# Altium schematic symbol library WE-PoE++.SchLib: 23 symbols
Pins are listed as number, name and electrical type; pins without a type are passive.

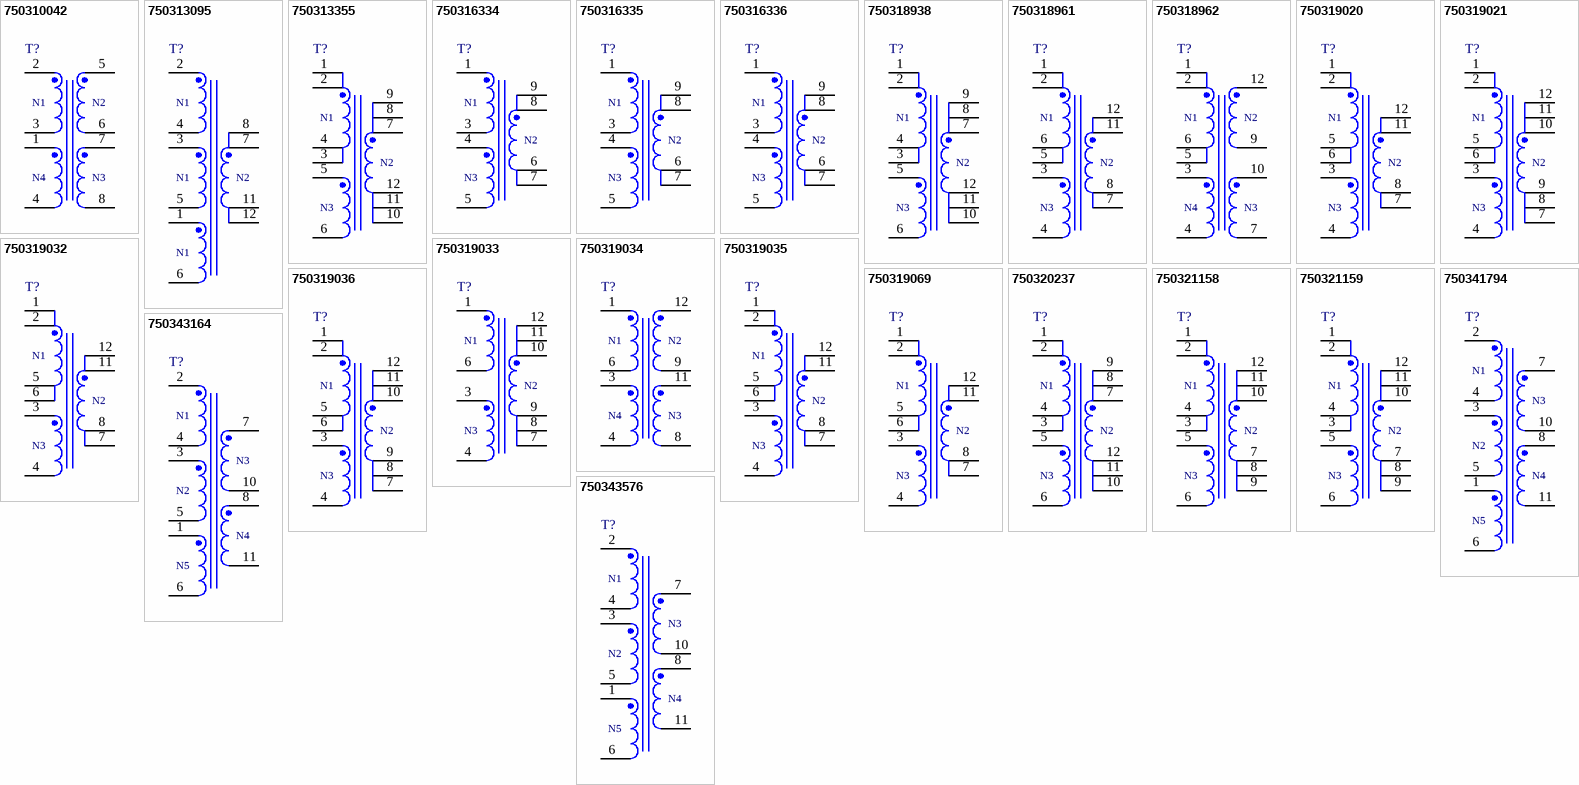
[diagram p0: symbols 750310042 to 750343576]

## 750310042
designator T?  (value not drawn)
WE-PoE++ Power over Ethernet Plus Plus Transformer, THT, EFD20, Ui = 30-57V, Po1 = 12V/5A, Po2 = -12V/1.6A; Manufacturer: Wurth Elektronik; Auxiliary Voltage: 12V; Inductance: 154μH; Input Voltage: 30-57V (DC); Insulation Test Voltage: 1500V (AC); Output Current: 5A; Output Current 2: 1.6A; Output Voltage 2: -12V; Turns Ratio: 2:1:1:1; Type: Forward; Manufacturer Part Number: 750310042; Category: Transformers For DC-DC Converter; Match Code: WE-PoE++; ComponentLink1Description: Website Link; ComponentLink1URL: https://www.we-online.com/redexpert/article/750310042?ad; ComponentLink2Description: Datasheet Link; ComponentLink2URL: https://www.we-online.com/redexpert/spec/750310042?ad; Mount: Through Hole; Min Operating Temperature: -40°C; Max Operating Temperature: 125°C; Packaging: Tape and Reel; Case/Size Code: EFD20; Length: 21.08mm; Width: 21.08mm; Height: 10.8mm; Output Voltage: 12V
footprint EFD20_750310042
pins: 1, 2, 3, 4, 5, 6, 7, 8
text: N1; N2; N4; N3

## 750313095
designator T?  (value not drawn)
WE-PoE++ Power over Ethernet Plus Plus Transformer, SMT, EFD20, Ui = 40-57V, Po = 5V/17A; Manufacturer: Wurth Elektronik; Auxiliary Voltage: 10.75V; Inductance: 175μH; Input Voltage: 40-57V (DC); Insulation Test Voltage: 2400V (AC); Output Current: 17A; Output Voltage: 5V; Turns Ratio: 3.5:1:2.25; Type: Forward; Manufacturer Part Number: 750313095; Category: Transformers For DC-DC Converter; Match Code: WE-PoE++; ComponentLink1Description: Website Link; ComponentLink1URL: https://www.we-online.com/redexpert/article/750313095?ad; ComponentLink2Description: Datasheet Link; ComponentLink2URL: https://www.we-online.com/redexpert/spec/750313095?ad; Mount: Surface Mount; Min Operating Temperature: -40°C; Max Operating Temperature: 125°C; Packaging: Tape and Reel; Case/Size Code: EFD20; Length: 29.65mm; Width: 21.8mm; Height: 11.43mm
footprint EFD20_750313095
pins: 1, 2, 3, 4, 5, 6, 7, 8, 11, 12
text: N1; N2

## 750313355
designator T?  (value not drawn)
WE-PoE++ Power over Ethernet Plus Plus Transformer, SMT, EFD20, Ui = 36-72V, Po = 12V/5A; Manufacturer: Wurth Elektronik; Auxiliary Voltage: 12V; Inductance: 100μH; Input Voltage: 36-72V (DC); Insulation Test Voltage: 1500V (AC); Output Current: 5A; Turns Ratio: 2:1:1; Type: Forward; Manufacturer Part Number: 750313355; Category: Transformers For DC-DC Converter; Match Code: WE-PoE++; ComponentLink1Description: Website Link; ComponentLink1URL: https://www.we-online.com/redexpert/article/750313355?ad; ComponentLink2Description: Datasheet Link; ComponentLink2URL: https://www.we-online.com/redexpert/spec/750313355?ad; Mount: Surface Mount; Min Operating Temperature: -40°C; Max Operating Temperature: 125°C; Packaging: Tape and Reel; Case/Size Code: EFD20; Length: 29.65mm; Width: 21.8mm; Height: 11.43mm; Output Voltage: 12V
footprint EFD20_750313355
pins: 1, 2, 3, 4, 5, 6, 7, 8, 9, 10, 11, 12
text: N1; N2; N3

## 750316334
designator T?  (value not drawn)
WE-PoE++ Power over Ethernet Plus Plus Transformer, SMT, EPW15, Ui = 36-57V, Po = 3.3V/18A; Manufacturer: Wurth Elektronik; Auxiliary Voltage: 12V; Inductance: 50μH; Input Voltage: 36-57V (DC); Insulation Test Voltage: 1500V (AC); Output Current: 18A; Output Voltage: 3.3V; Turns Ratio: 7:1:3.5; Type: Forward; Manufacturer Part Number: 750316334; Category: Transformers For DC-DC Converter; Match Code: WE-PoE++; ComponentLink1Description: Website Link; ComponentLink1URL: https://www.we-online.com/redexpert/article/750316334?ad; ComponentLink2Description: Datasheet Link; ComponentLink2URL: https://www.we-online.com/redexpert/spec/750316334?ad; Mount: Surface Mount; Min Operating Temperature: -40°C; Max Operating Temperature: 125°C; Packaging: Tape and Reel; Case/Size Code: EPW15; Length: 21.69mm; Width: 15.5mm; Height: 13.5mm
footprint EPW15_750316334
pins: 1, 3, 4, 5, 6, 7, 8, 9
text: N1; N2; N3

## 750316335
designator T?  (value not drawn)
WE-PoE++ Power over Ethernet Plus Plus Transformer, SMT, EPW15, Ui = 36-57V, Po = 5V/14A; Manufacturer: Wurth Elektronik; Auxiliary Voltage: 12V; Inductance: 50μH; Input Voltage: 36-57V (DC); Insulation Test Voltage: 1500V (AC); Output Current: 14A; Output Voltage: 5V; Turns Ratio: 4:1:2.33; Type: Forward; Manufacturer Part Number: 750316335; Category: Transformers For DC-DC Converter; Match Code: WE-PoE++; ComponentLink1Description: Website Link; ComponentLink1URL: https://www.we-online.com/redexpert/article/750316335?ad; ComponentLink2Description: Datasheet Link; ComponentLink2URL: https://www.we-online.com/redexpert/spec/750316335?ad; Mount: Surface Mount; Min Operating Temperature: -40°C; Max Operating Temperature: 125°C; Packaging: Tape and Reel; Case/Size Code: EPW15; Length: 21.69mm; Width: 15.5mm; Height: 13.5mm
footprint EPW15_750316335
pins: 1, 3, 4, 5, 6, 7, 8, 9
text: N1; N2; N3

## 750316336
designator T?  (value not drawn)
WE-PoE++ Power over Ethernet Plus Plus Transformer, SMT, EPW15, Ui = 36-57V, Po = 12V/6A; Manufacturer: Wurth Elektronik; Auxiliary Voltage: 12V; Inductance: 50μH; Input Voltage: 36-57V (DC); Insulation Test Voltage: 1500V (AC); Output Current: 6A; Turns Ratio: 2:1:1; Type: Forward; Manufacturer Part Number: 750316336; Category: Transformers For DC-DC Converter; Match Code: WE-PoE++; ComponentLink1Description: Website Link; ComponentLink1URL: https://www.we-online.com/redexpert/article/750316336?ad; ComponentLink2Description: Datasheet Link; ComponentLink2URL: https://www.we-online.com/redexpert/spec/750316336?ad; Mount: Surface Mount; Min Operating Temperature: -40°C; Max Operating Temperature: 125°C; Packaging: Tape and Reel; Case/Size Code: EPW15; Length: 21.69mm; Width: 15.5mm; Height: 13.5mm; Output Voltage: 12V
footprint EPW15_750316336
pins: 1, 3, 4, 5, 6, 7, 8, 9
text: N1; N2; N3

## 750318938
designator T?  (value not drawn)
WE-PoE++ Power over Ethernet Plus Plus Transformer, SMT, EFD20, Ui = 36-72V, Po = 5V/12A; Manufacturer: Wurth Elektronik; Auxiliary Voltage: 13V; Inductance: 150μH; Input Voltage: 36-72V (DC); Insulation Test Voltage: 1500V (AC); Output Current: 12A; Output Voltage: 5V; Turns Ratio: 4:1:2.6; Type: Forward; Manufacturer Part Number: 750318938; Category: Transformers For DC-DC Converter; Match Code: WE-PoE++; ComponentLink1Description: Website Link; ComponentLink1URL: https://www.we-online.com/redexpert/article/750318938?ad; ComponentLink2Description: Datasheet Link; ComponentLink2URL: https://www.we-online.com/redexpert/spec/750318938?ad; Mount: Surface Mount; Min Operating Temperature: -40°C; Max Operating Temperature: 125°C; Packaging: Tape and Reel; Case/Size Code: EFD20; Length: 29.65mm; Width: 21.8mm; Height: 11.43mm
footprint EFD20_750318938
pins: 1, 2, 3, 4, 5, 6, 7, 8, 9, 10, 11, 12
text: N1; N2; N3

## 750318961
designator T?  (value not drawn)
WE-PoE++ Power over Ethernet Plus Plus Transformer, SMT, EFD20, Ui = 33-57V, Po = 5V/19A; Manufacturer: Wurth Elektronik; Auxiliary Voltage: 12V; Inductance: 66μH; Input Voltage: 33-57V (DC); Insulation Test Voltage: 1500V (AC); Output Current: 19A; Output Voltage: 5V; Turns Ratio: 4:1:2.5; Type: Active Clamp Forward; Manufacturer Part Number: 750318961; Category: Transformers For DC-DC Converter; Match Code: WE-PoE++; ComponentLink1Description: Website Link; ComponentLink1URL: https://www.we-online.com/redexpert/article/750318961?ad; ComponentLink2Description: Datasheet Link; ComponentLink2URL: https://www.we-online.com/redexpert/spec/750318961?ad; Mount: Surface Mount; Min Operating Temperature: -40°C; Max Operating Temperature: 125°C; Packaging: Tape and Reel; Case/Size Code: EFD20; Length: 29.65mm; Width: 21.8mm; Height: 11.43mm
footprint EFD20_750318961
pins: 1, 2, 3, 4, 5, 6, 7, 8, 11, 12
text: N1; N2; N3

## 750318962
designator T?  (value not drawn)
WE-PoE++ Power over Ethernet Plus Plus Transformer, SMT, EFD20, Ui = 33-57V, Po = 12V/8A; Manufacturer: Wurth Elektronik; Auxiliary Voltage: 12V; Inductance: 66μH; Input Voltage: 33-57V (DC); Insulation Test Voltage: 1500V (AC); Output Current: 8A; Turns Ratio: 1.6:1:1:1; Type: Active Clamp Forward; Manufacturer Part Number: 750318962; Category: Transformers For DC-DC Converter; Match Code: WE-PoE++; ComponentLink1Description: Website Link; ComponentLink1URL: https://www.we-online.com/redexpert/article/750318962?ad; ComponentLink2Description: Datasheet Link; ComponentLink2URL: https://www.we-online.com/redexpert/spec/750318962?ad; Mount: Surface Mount; Min Operating Temperature: -40°C; Max Operating Temperature: 125°C; Packaging: Tape and Reel; Case/Size Code: EFD20; Length: 29.65mm; Width: 21.8mm; Height: 11.43mm; Output Voltage: 12V
footprint EFD20_750318962
pins: 1, 2, 3, 4, 5, 6, 7, 9, 10, 12
text: N1; N2; N4; N3

## 750319020
designator T?  (value not drawn)
WE-PoE++ Power over Ethernet Plus Plus Transformer, SMT, EFD25, Ui = 33-57V, Po = 5V/19A; Manufacturer: Wurth Elektronik; Auxiliary Voltage: 12V; Inductance: 17μH; Input Voltage: 33-57V (DC); Insulation Test Voltage: 1500V (AC); Output Current: 19A; Output Voltage: 5V; Turns Ratio: 5:1:2.5; Type: CCM Flyback; Manufacturer Part Number: 750319020; Category: Transformers For DC-DC Converter; Match Code: WE-PoE++; ComponentLink1Description: Website Link; ComponentLink1URL: https://www.we-online.com/redexpert/article/750319020?ad; ComponentLink2Description: Datasheet Link; ComponentLink2URL: https://www.we-online.com/redexpert/spec/750319020?ad; Mount: Surface Mount; Min Operating Temperature: -40°C; Max Operating Temperature: 125°C; Packaging: Tape and Reel; Case/Size Code: EFD25; Length: 32.45mm; Width: 27.03mm; Height: 13.97mm
footprint EFD25_750319020
pins: 1, 2, 3, 4, 5, 6, 7, 8, 11, 12
text: N1; N2; N3

## 750319021
designator T?  (value not drawn)
WE-PoE++ Power over Ethernet Plus Plus Transformer, SMT, EFD25, Ui = 33-57V, Po = 12V/8A; Manufacturer: Wurth Elektronik; Auxiliary Voltage: 12V; Inductance: 22μH; Input Voltage: 33-57V (DC); Insulation Test Voltage: 1500V (AC); Output Current: 8A; Turns Ratio: 2.4:1:1; Type: CCM Flyback; Manufacturer Part Number: 750319021; Category: Transformers For DC-DC Converter; Match Code: WE-PoE++; ComponentLink1Description: Website Link; ComponentLink1URL: https://www.we-online.com/redexpert/article/750319021?ad; ComponentLink2Description: Datasheet Link; ComponentLink2URL: https://www.we-online.com/redexpert/spec/750319021?ad; Mount: Surface Mount; Min Operating Temperature: -40°C; Max Operating Temperature: 125°C; Packaging: Tape and Reel; Case/Size Code: EFD25; Length: 32.45mm; Width: 27.03mm; Height: 13.97mm; Output Voltage: 12V
footprint EFD25_750319021
pins: 1, 2, 3, 4, 5, 6, 7, 8, 9, 10, 11, 12
text: N1; N2; N3

## 750319032
designator T?  (value not drawn)
WE-PoE++ Power over Ethernet Plus Plus Transformer, SMT, EFD25, Ui = 33-57V, Po = 24V/4A; Manufacturer: Wurth Elektronik; Auxiliary Voltage: 12V; Inductance: 22μH; Input Voltage: 33-57V (DC); Insulation Test Voltage: 1500V (AC); Output Current: 4A; Output Voltage: 24V; Turns Ratio: 2.4:2:1; Manufacturer Part Number: 750319032; Category: Transformers For DC-DC Converter; Match Code: WE-PoE++; ComponentLink1Description: Website Link; ComponentLink1URL: https://www.we-online.com/redexpert/article/750319032?ad; ComponentLink2Description: Datasheet Link; ComponentLink2URL: https://www.we-online.com/redexpert/spec/750319032?ad; Mount: Surface Mount; Min Operating Temperature: -40°C; Max Operating Temperature: 125°C; Packaging: Tape and Reel; Case/Size Code: EFD25; Length: 32.45mm; Width: 27.03mm; Height: 13.97mm
footprint EFD25_750319032
pins: 1, 2, 3, 4, 5, 6, 7, 8, 11, 12
text: N1; N2; N3

## 750319033
designator T?  (value not drawn)
WE-PoE++ Power over Ethernet Plus Plus Transformer, SMT, EFD20, Ui = 33-57V, Po = 5V/14.6A; Manufacturer: Wurth Elektronik; Auxiliary Voltage: 12V; Inductance: 66μH; Input Voltage: 33-57V (DC); Insulation Test Voltage: 1500V (AC); Output Current: 14.6A; Output Voltage: 5V; Turns Ratio: 4:1:2.5; Type: Active Clamp Forward; Manufacturer Part Number: 750319033; Category: Transformers For DC-DC Converter; Match Code: WE-PoE++; ComponentLink1Description: Website Link; ComponentLink1URL: https://www.we-online.com/redexpert/article/750319033?ad; ComponentLink2Description: Datasheet Link; ComponentLink2URL: https://www.we-online.com/redexpert/spec/750319033?ad; Mount: Surface Mount; Min Operating Temperature: -40°C; Max Operating Temperature: 125°C; Packaging: Tape and Reel; Case/Size Code: EFD20; Length: 29.65mm; Width: 21.8mm; Height: 11.43mm
footprint EFD20_750319033
pins: 1, 3, 4, 6, 7, 8, 9, 10, 11, 12
text: N1; N2; N3

## 750319034
designator T?  (value not drawn)
WE-PoE++ Power over Ethernet Plus Plus Transformer, SMT, EFD20, Ui = 33-57V, Po = 12V/6A; Manufacturer: Wurth Elektronik; Auxiliary Voltage: 12V; Inductance: 66μH; Input Voltage: 33-57V (DC); Insulation Test Voltage: 1500V (AC); Output Current: 6A; Turns Ratio: 1.6:1:1:1; Type: Active Clamp Forward; Manufacturer Part Number: 750319034; Category: Transformers For DC-DC Converter; Match Code: WE-PoE++; ComponentLink1Description: Website Link; ComponentLink1URL: https://www.we-online.com/redexpert/article/750319034?ad; ComponentLink2Description: Datasheet Link; ComponentLink2URL: https://www.we-online.com/redexpert/spec/750319034?ad; Mount: Surface Mount; Min Operating Temperature: -40°C; Max Operating Temperature: 125°C; Packaging: Tape and Reel; Case/Size Code: EFD20; Length: 29.65mm; Width: 21.8mm; Height: 11.43mm; Output Voltage: 12V
footprint EFD20_750319034
pins: 1, 3, 4, 6, 8, 9, 11, 12
text: N1; N2; N4; N3

## 750319035
designator T?  (value not drawn)
WE-PoE++ Power over Ethernet Plus Plus Transformer, SMT, EFD20, Ui = 33-57V, Po = 5V/14.6A; Manufacturer: Wurth Elektronik; Auxiliary Voltage: 12V; Inductance: 16μH; Input Voltage: 33-57V (DC); Insulation Test Voltage: 1500V (AC); Output Current: 14.6A; Output Voltage: 5V; Turns Ratio: 4.67:1:2.33; Type: CCM Flyback; Manufacturer Part Number: 750319035; Category: Transformers For DC-DC Converter; Match Code: WE-PoE++; ComponentLink1Description: Website Link; ComponentLink1URL: https://www.we-online.com/redexpert/article/750319035?ad; ComponentLink2Description: Datasheet Link; ComponentLink2URL: https://www.we-online.com/redexpert/spec/750319035?ad; Mount: Surface Mount; Min Operating Temperature: -40°C; Max Operating Temperature: 125°C; Packaging: Tape and Reel; Case/Size Code: EFD20; Length: 29.65mm; Width: 21.8mm; Height: 11.43mm
footprint EFD20_750319035
pins: 1, 2, 3, 4, 5, 6, 7, 8, 11, 12
text: N1; N2; N3

## 750319036
designator T?  (value not drawn)
WE-PoE++ Power over Ethernet Plus Plus Transformer, SMT, EFD20, Ui = 33-57V, Po = 12V/6A; Manufacturer: Wurth Elektronik; Auxiliary Voltage: 12V; Inductance: 16μH; Input Voltage: 33-57V (DC); Insulation Test Voltage: 1500V (AC); Output Current: 6A; Turns Ratio: 2.33:1:1; Type: CCM Flyback; Manufacturer Part Number: 750319036; Category: Transformers For DC-DC Converter; Match Code: WE-PoE++; ComponentLink1Description: Website Link; ComponentLink1URL: https://www.we-online.com/redexpert/article/750319036?ad; ComponentLink2Description: Datasheet Link; ComponentLink2URL: https://www.we-online.com/redexpert/spec/750319036?ad; Mount: Surface Mount; Min Operating Temperature: -40°C; Max Operating Temperature: 125°C; Packaging: Tape and Reel; Case/Size Code: EFD20; Length: 29.65mm; Width: 21.8mm; Height: 11.43mm; Output Voltage: 12V
footprint EFD20_750319036
pins: 1, 2, 3, 4, 5, 6, 7, 8, 9, 10, 11, 12
text: N1; N2; N3

## 750319069
designator T?  (value not drawn)
WE-PoE++ Power over Ethernet Plus Plus Transformer, SMT, EFD20, Ui = 33-57V, Po = 24V/3A; Manufacturer: Wurth Elektronik; Auxiliary Voltage: 12V; Inductance: 16μH; Input Voltage: 33-57V (DC); Insulation Test Voltage: 1500V (AC); Output Current: 3A; Output Voltage: 24V; Turns Ratio: 2:1.86:1; Type: CCM Flyback; Manufacturer Part Number: 750319069; Category: Transformers For DC-DC Converter; Match Code: WE-PoE++; ComponentLink1Description: Website Link; ComponentLink1URL: https://www.we-online.com/redexpert/article/750319069?ad; ComponentLink2Description: Datasheet Link; ComponentLink2URL: https://www.we-online.com/redexpert/spec/750319069?ad; Mount: Surface Mount; Min Operating Temperature: -40°C; Max Operating Temperature: 125°C; Packaging: Tape and Reel; Case/Size Code: EFD20; Length: 29.65mm; Width: 21.8mm; Height: 11.43mm
footprint EFD20_750319069
pins: 1, 2, 3, 4, 5, 6, 7, 8, 11, 12
text: N1; N2; N3

## 750320237
designator T?  (value not drawn)
WE-PoE++ Power over Ethernet Plus Plus Transformer, SMT, EFD20, Ui = 36-57V, Po = 24V/2.5A; Manufacturer: Wurth Elektronik; Auxiliary Voltage: 12V; Inductance: 100μH; Input Voltage: 36-57V (DC); Insulation Test Voltage: 1500V (AC); Output Current: 2.5A; Output Voltage: 24V; Turns Ratio: 2:2:1; Type: Forward; Manufacturer Part Number: 750320237; Category: Transformers For DC-DC Converter; Match Code: WE-PoE++; ComponentLink1Description: Website Link; ComponentLink1URL: https://www.we-online.com/redexpert/article/750320237?ad; ComponentLink2Description: Datasheet Link; ComponentLink2URL: https://www.we-online.com/redexpert/spec/750320237?ad; Mount: Surface Mount; Min Operating Temperature: -40°C; Max Operating Temperature: 125°C; Packaging: Tape and Reel; Case/Size Code: EFD20; Length: 29.65mm; Width: 21.8mm; Height: 11.43mm
footprint EFD20_750320237
pins: 1, 2, 3, 4, 5, 6, 7, 8, 9, 10, 11, 12
text: N1; N2; N3

## 750321158
designator T?  (value not drawn)
WE-PoE++ Power over Ethernet Plus Plus Transformer, SMT, EFD20, Ui = 36-57V, Po = 48V/1.3A; Manufacturer: Wurth Elektronik; Auxiliary Voltage: 12V; Inductance: 17.8μH; Input Voltage: 36-57V (DC); Insulation Test Voltage: 1500V (AC); Output Current: 1.3A; Output Voltage: 48V; Turns Ratio: 0.5:1:0.25; Type: CCM Flyback; Manufacturer Part Number: 750321158; Category: Transformers For DC-DC Converter; Match Code: WE-PoE++; ComponentLink1Description: Website Link; ComponentLink1URL: https://www.we-online.com/redexpert/article/750321158?ad; ComponentLink2Description: Datasheet Link; ComponentLink2URL: https://www.we-online.com/redexpert/spec/750321158?ad; Mount: Surface Mount; Min Operating Temperature: -40°C; Max Operating Temperature: 125°C; Packaging: Tape and Reel; Case/Size Code: EFD20; Length: 29.65mm; Width: 21.8mm; Height: 11.43mm
footprint EFD20_750321158
pins: 1, 2, 3, 4, 5, 6, 7, 8, 9, 10, 11, 12
text: N1; N2; N3

## 750321159
designator T?  (value not drawn)
WE-PoE++ Power over Ethernet Plus Plus Transformer, SMT, EFD20, Ui = 36-57V, Po = 48V/1.45A; Manufacturer: Wurth Elektronik; Auxiliary Voltage: 12V; Inductance: 15.5μH; Input Voltage: 36-57V (DC); Insulation Test Voltage: 1500V (AC); Output Current: 1.45A; Output Voltage: 48V; Turns Ratio: 0.5:1:0.25; Type: CCM Flyback; Manufacturer Part Number: 750321159; Category: Transformers For DC-DC Converter; Match Code: WE-PoE++; ComponentLink1Description: Website Link; ComponentLink1URL: https://www.we-online.com/redexpert/article/750321159?ad; ComponentLink2Description: Datasheet Link; ComponentLink2URL: https://www.we-online.com/redexpert/spec/750321159?ad; Mount: Surface Mount; Min Operating Temperature: -40°C; Max Operating Temperature: 125°C; Packaging: Tape and Reel; Case/Size Code: EFD20; Length: 29.65mm; Width: 21.8mm; Height: 11.43mm
footprint EFD20_750321159
pins: 1, 2, 3, 4, 5, 6, 7, 8, 9, 10, 11, 12
text: N1; N2; N3

## 750341794
designator T?  (value not drawn)
WE-PoE++ Power over Ethernet Plus Plus Transformer, SMT, ER19/4.8/15, Ui = 37-57V, Po = 12V/6A; Manufacturer: Wurth Elektronik; Auxiliary Voltage: 12V; Inductance: 153μH; Input Voltage: 37-57V (DC); Insulation Test Voltage: 2250V (AC); Output Current: 6A; Turns Ratio: 4:4:2:2:4; Type: Forward; Manufacturer Part Number: 750341794; Category: Transformers For DC-DC Converter; Match Code: WE-PoE++; ComponentLink1Description: Website Link; ComponentLink1URL: https://www.we-online.com/redexpert/article/750341794?ad; ComponentLink2Description: Datasheet Link; ComponentLink2URL: https://www.we-online.com/redexpert/spec/750341794?ad; Mount: Surface Mount; Min Operating Temperature: -40°C; Max Operating Temperature: 125°C; Packaging: Tape and Reel; Case/Size Code: ER19/4.8/15; Length: 23.37mm; Width: 21.08mm; Height: 10.5mm; Output Voltage: 12V
footprint ER19/4.8/15_750341794
pins: 1, 2, 3, 4, 5, 6, 7, 8, 10, 11
text: N1; N3; N2; N4; N5

## 750343164
designator T?  (value not drawn)
WE-PoE++ Power over Ethernet Plus Plus Transformer, SMT, ER19/4.8/15, Ui = 40-57V, Po = 5V/14A; Manufacturer: Wurth Elektronik; Auxiliary Voltage: 12V; Inductance: 153μH; Input Voltage: 40-57V (DC); Insulation Test Voltage: 2250V (AC); Output Current: 14A; Output Voltage: 5V; Turns Ratio: 4:4:1:1:5; Type: Forward; Manufacturer Part Number: 750343164; Category: Transformers For DC-DC Converter; Match Code: WE-PoE++; ComponentLink1Description: Website Link; ComponentLink1URL: https://www.we-online.com/redexpert/article/750343164?ad; ComponentLink2Description: Datasheet Link; ComponentLink2URL: https://www.we-online.com/redexpert/spec/750343164?ad; Mount: Surface Mount; Min Operating Temperature: -40°C; Max Operating Temperature: 125°C; Packaging: Tape and Reel; Case/Size Code: ER19/4.8/15; Length: 23.37mm; Width: 21.08mm; Height: 10.5mm
footprint ER19/4.8/15_750343164
pins: 1, 2, 3, 4, 5, 6, 7, 8, 10, 11
text: N1; N3; N2; N4; N5

## 750343576
designator T?  (value not drawn)
WE-PoE++ Power over Ethernet Plus Plus Transformer, SMT, ER19/4.8/15, Ui = 40-57V, Po = 24V/3A; Manufacturer: Wurth Elektronik; Auxiliary Voltage: 12V; Inductance: 100μH; Input Voltage: 40-57V (DC); Insulation Test Voltage: 2250V (AC); Output Current: 3A; Output Voltage: 24V; Turns Ratio: 4:4:4:4:4; Type: Forward; Manufacturer Part Number: 750343576; Category: Transformers For DC-DC Converter; Match Code: WE-PoE++; ComponentLink1Description: Website Link; ComponentLink1URL: https://www.we-online.com/redexpert/article/750343576?ad; ComponentLink2Description: Datasheet Link; ComponentLink2URL: https://www.we-online.com/redexpert/spec/750343576?ad; Mount: Surface Mount; Min Operating Temperature: -40°C; Max Operating Temperature: 125°C; Packaging: Tape and Reel; Case/Size Code: ER19/4.8/15; Length: 23.37mm; Width: 21.08mm; Height: 10.5mm
footprint ER19/4.8/15_750343576
pins: 1, 2, 3, 4, 5, 6, 7, 8, 10, 11
text: N1; N3; N2; N4; N5